# EAGLE library part SW-ADAPTER-SWV (library STM32-SWD)
Adapter mit SWV. Zur Verfügung steht der von ST vorgesehene 20 Pin Header und alternativ ein 10 Pin Header von Samtec mit eigener Belegung. Als passendes Programmerkabel kann FFSD-05-D-06.00-01-N von Samtec benutzt werden.
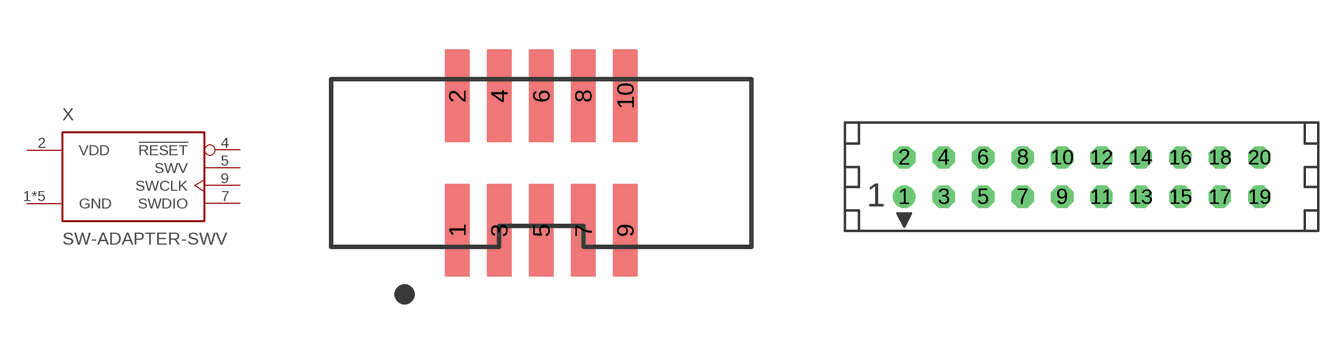
[diagram p0: symbol with the pads of SHF-105-01-L-D-SM; footprints SHF-105-01-L-D-SM, CON20]

Designator prefix X

## SW-ADAPTER-SWVSMD (MFG: Samtec; MPN: SHF-105-01-L-D-SM)  [SHF-105-01-L-D-SM]
1  GND  sup
2  VDD  sup
3  GND  sup
4  !RESET  out
5  SWV
6  GND  sup
7  SWDIO
8  GND  sup
9  SWCLK  out
10  GND  sup

## SW-ADAPTER-SWVSTANDARD (MFG: Molex; MPN: 1392410)  [CON20]
1  VDD  sup
2  VDD  sup
3  GND  sup
4  GND  sup
5  GND  sup
6  GND  sup
7  SWDIO
8  GND  sup
9  SWCLK  out
10  GND  sup
12  GND  sup
13  SWV
14  GND  sup
15  !RESET  out
16  GND  sup
18  GND  sup
20  GND  sup

## SW-ADAPTER-SWV (MFG: Molex; MPN: 1392410)  [CON20-EDGE]
Pads as for CON20

## Footprint SHF-105-01-L-D-SM (pad centres in mm)
smd 0.737 x 2.794: 1 -2.54,-2.032; 2 -2.54,2.032; 3 -1.27,-2.032; 4 -1.27,2.032; 5 0,-2.032; 6 0,2.032; 7 1.27,-2.032; 8 1.27,2.032; 9 2.54,-2.032; 10 2.54,2.032

## Footprint CON20 (pad centres in mm)
drill 0.914: 1 -11.43,-1.27
drill 0.914 octagon: 2 -11.43,1.27; 3 -8.89,-1.27; 4 -8.89,1.27; 5 -6.35,-1.27; 6 -6.35,1.27; 7 -3.81,-1.27; 8 -3.81,1.27; 9 -1.27,-1.27; 10 -1.27,1.27; 11 1.27,-1.27; 12 1.27,1.27; 13 3.81,-1.27; 14 3.81,1.27; 15 6.35,-1.27; 16 6.35,1.27; 17 8.89,-1.27; 18 8.89,1.27; 19 11.43,-1.27; 20 11.43,1.27

## Footprint CON20-EDGE (pad centres in mm)
smd 1 x 4 bottom: 1 -11.43,2.54; 3 -8.89,2.54; 5 -6.35,2.54; 7 -3.81,2.54; 9 -1.27,2.54; 11 1.27,2.54; 13 3.81,2.54; 15 6.35,2.54; 17 8.89,2.54; 19 11.43,2.54
smd 1 x 4: 2 -11.43,2.54; 4 -8.89,2.54; 6 -6.35,2.54; 8 -3.81,2.54; 10 -1.27,2.54; 12 1.27,2.54; 14 3.81,2.54; 16 6.35,2.54; 18 8.89,2.54; 20 11.43,2.54